# EAGLE library part PMS5003 (library airqualityparts)
PMS5003 header from pimoroni.com
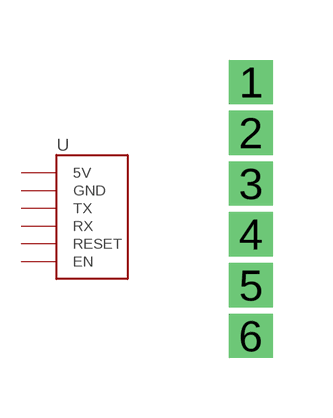
[diagram p0: symbol with the pads of PMS5003; footprint PMS5003]

Designator prefix -

## PMS5003  [PMS5003]
1  5V
2  GND
3  TX
4  RX
5  RESET
6  EN

## Footprint PMS5003 (pad centres in mm)
drill 0.6 square: 1 0,3.81; 2 0,2.54; 3 0,1.27; 4 0,0; 5 0,-1.27; 6 0,-2.54